# Altium footprint library DPAK (TO252AA).PcbLib: 1 footprints
Each footprint in its own frame and in the unit in brackets; x right, y up, seen from the top. Pads: shape width x height; smd on the part's side, far side on the other; paste and mask are expansions set on the pad; w line width, h text height; cw(c..) or ccw(c..) is an arc to the next point about the centre after c.
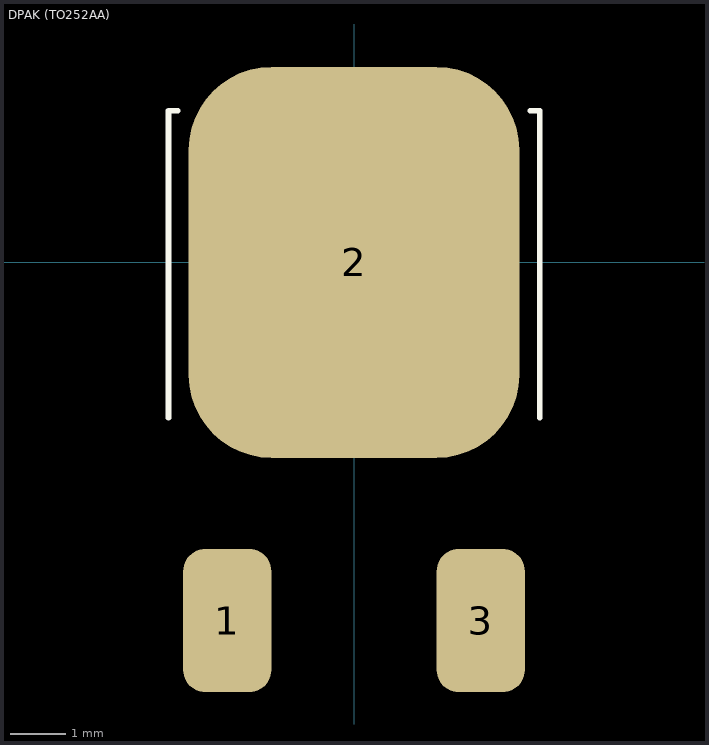
[diagram p0: the footprint, top view; thin cyan lines are the x and y axes]

## DPAK (TO252AA) [mm]
height 2.3
pads (3):
  rrect50% 1.6x2.6 smd paste-0.05: 1(-2.3,-6.5) 3(2.3,-6.5)
  rrect50% 6x7.1 smd paste-0.05: 2(0,0)
Top Overlay:
  lines w0.1: -3.367,-2.815 -3.367,2.75 -3.2,2.75 ; 3.2,2.75 3.367,2.75 3.367,-2.815
Top Paste:
  lines w0.3: -3.125,0 3.125,0 ; 0,-3.45 0,3.75
3D body "DPAK (TO-252AA).STEP": height 2.37, standoff -0.03, extent -3.367,-7.35 3.367,2.75